# Altium footprint library con-pc.PCBLIB: 18 footprints (part 1 of 2)
Each footprint in its own frame and in the unit in brackets; x right, y up, seen from the top. Pads: shape width x height; smd on the part's side, far side on the other; paste and mask are expansions set on the pad; w line width, h text height; cw(c..) or ccw(c..) is an arc to the next point about the centre after c.
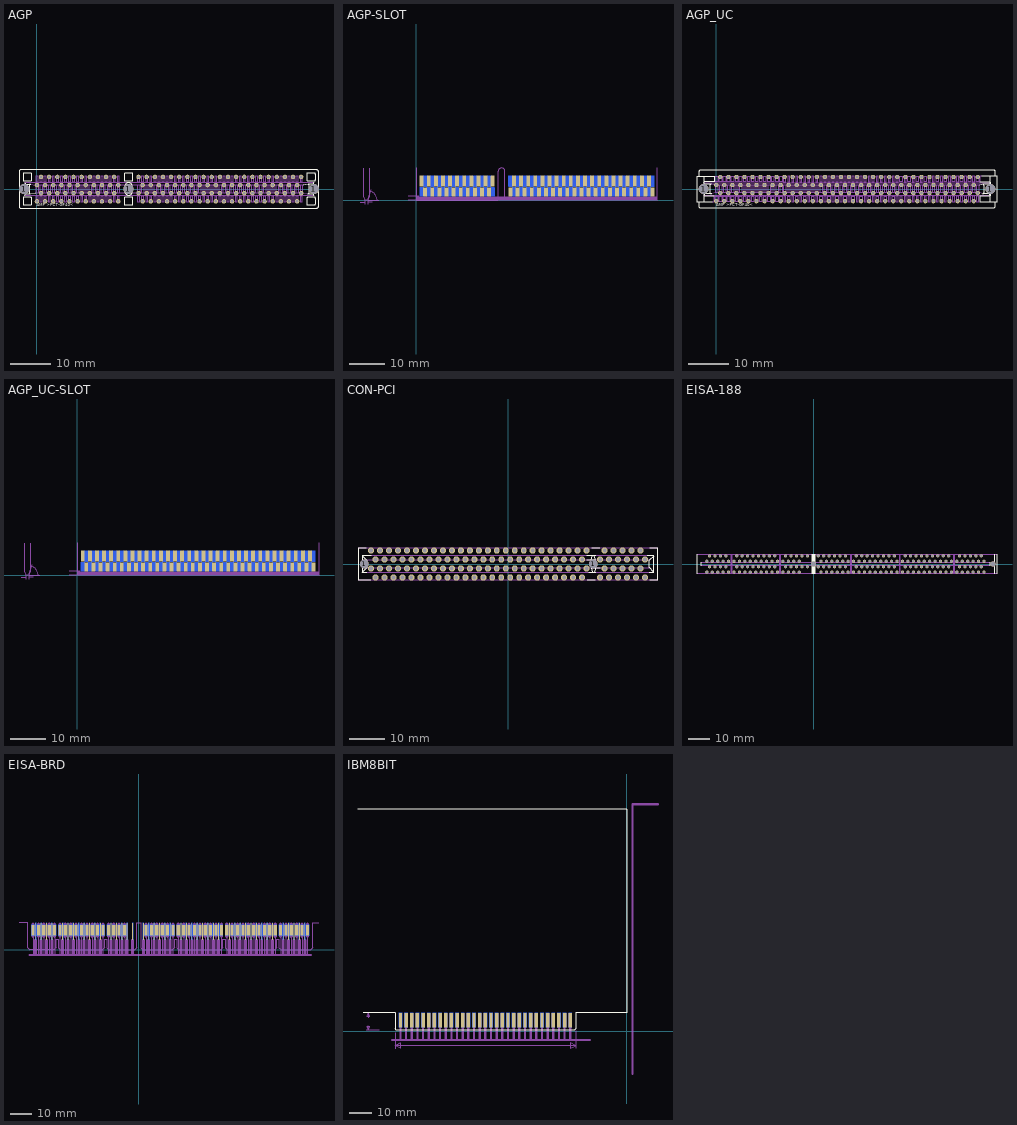
[diagram p0: the footprints below, top view; thin cyan lines are the x and y axes]

## AGP [mm]
pads (127):
  round 2.5 hole 2.5: 1(-3.14,0) 1(22.5,0) 1(68.14,0)
  round 1.1 hole 0.7: 1(0,-3) 2(0,1) 3(1,-1) 4(1,3) 5(2,-3) 6(2,1) 7(3,-1) 8(3,3) 9(4,-3) 10(4,1) 11(5,-1) 12(5,3) 13(6,-3) 14(6,1) 15(7,-1) 16(7,3) 17(8,-3) 18(8,1) 19(9,-1) 20(9,3) 21(10,-3) 22(10,1) 23(11,-1) 24(11,3) 25(12,-3) 26(12,1) 27(13,-1) 28(13,3) 29(14,-3) 30(14,1) 31(15,-1) 32(15,3) 33(16,-3) 34(16,1) 35(17,-1) 36(17,3) 37(18,-3) 38(18,1) 39(19,-1) 40(19,3) 41(20,-3) 42(20,1) 43(25,-1) 44(25,3) 45(26,-3) 46(26,1) 47(27,-1) 48(27,3) 49(28,-3) 50(28,1) 51(29,-1) 52(29,3) 53(30,-3) 54(30,1) 55(31,-1) 56(31,3) 57(32,-3) 58(32,1) 59(33,-1) 60(33,3) 61(34,-3) 62(34,1) 63(35,-1) 64(35,3) 65(36,-3) 66(36,1) 67(37,-1) 68(37,3) 69(38,-3) 70(38,1) 71(39,-1) 72(39,3) 73(40,-3) 74(40,1) 75(41,-1) 76(41,3) 77(42,-3) 78(42,1) 79(43,-1) 80(43,3) 81(44,-3) 82(44,1) 83(45,-1) 84(45,3) 85(46,-3) 86(46,1) 87(47,-1) 88(47,3) 89(48,-3) 90(48,1) 91(49,-1) 92(49,3) 93(50,-3) 94(50,1) 95(51,-1) 96(51,3) 97(52,-3) 98(52,1) 99(53,-1) 100(53,3) 101(54,-3) 102(54,1) 103(55,-1) 104(55,3) 105(56,-3) 106(56,1) 107(57,-1) 108(57,3) 109(58,-3) 110(58,1) 111(59,-1) 112(59,3) 113(60,-3) 114(60,1) 115(61,-1) 116(61,3) 117(62,-3) 118(62,1) 119(63,-1) 120(63,3) 121(64,-3) 122(64,1) 123(65,-1) 124(65,3)
Top Overlay:
  lines w0.102: -1.558,1.24 -1.653,1.24 ; -0.318,-0.922 -1.589,-1.176 -1.685,-1.176 ; 65.479,0.954 66.687,1.24 ; 66.592,-1.176 66.687,-1.176 ; 68.086,-1.462 67.863,-1.176 66.687,-1.176 ; 68.117,-1.494 68.117,1.558 67.895,1.24 66.687,1.24 ; -1.685,-1.176 -2.765,-1.176 -3.02,-1.494 -3.02,1.558 -2.797,1.24 -1.653,1.24 ; -1.685,-1.176 cw(c-1.685,-0.985) -1.875,-0.986 -1.875,1.017 cw(c-1.653,1.017) -1.653,1.24 ; 66.687,-1.176 ccw(c66.687,-0.89) 66.973,-0.89 66.973,0.954 ccw(c66.687,0.954) 66.687,1.24 ; -4.418,-4.228 -4.418,4.291 cw(c-3.973,4.291) -3.973,4.736 68.753,4.736 cw(c68.753,4.164) 69.325,4.164 69.325,-4.1 cw(c68.753,-4.1) 68.753,-4.673 -3.973,-4.673 cw(c-3.973,-4.228) -4.418,-4.228 ; -3.433,-3.624 -3.433,-2.257 cw(c-3.179,-2.257) -3.179,-2.003 -1.526,-2.003 cw(c-1.526,-2.257) -1.272,-2.257 -1.272,-3.624 cw(c-1.526,-3.624) -1.526,-3.878 -3.179,-3.878 cw(c-3.179,-3.624) -3.433,-3.624 ; -3.433,2.289 -3.433,3.687 cw(c-3.178,3.687) -3.179,3.942 -1.558,3.942 cw(c-1.558,3.655) -1.272,3.655 -1.272,2.289 cw(c-1.526,2.288) -1.526,2.034 -3.179,2.034 cw(c-3.179,2.289) -3.433,2.289 ; 21.456,-3.655 21.456,-2.225 cw(c21.678,-2.225) 21.678,-2.003 23.363,-2.003 cw(c23.363,-2.257) 23.617,-2.257 23.617,-3.592 cw(c23.331,-3.592) 23.331,-3.878 21.678,-3.878 cw(c21.678,-3.655) 21.456,-3.655 ; 21.456,2.289 21.456,3.655 cw(c21.742,3.655) 21.742,3.942 23.331,3.942 cw(c23.331,3.656) 23.617,3.656 23.617,2.32 cw(c23.331,2.32) 23.331,2.034 21.71,2.034 cw(c21.71,2.289) 21.456,2.289 ; 21.646,-0.636 21.646,0.699 cw(c22.504,0.699) 22.504,1.558 22.568,1.558 cw(c22.568,0.699) 23.426,0.699 23.426,-0.668 cw(c22.6,-0.668) 22.6,-1.494 22.504,-1.494 cw(c22.505,-0.636) 21.646,-0.636 ; 66.369,-3.624 66.369,-2.257 cw(c66.623,-2.257) 66.623,-2.003 68.276,-2.003 cw(c68.277,-2.257) 68.531,-2.257 68.531,-3.624 cw(c68.276,-3.624) 68.276,-3.878 66.623,-3.878 cw(c66.624,-3.623) 66.369,-3.624 ; 66.369,2.289 66.369,3.719 cw(c66.592,3.719) 66.592,3.942 68.245,3.942 cw(c68.245,3.655) 68.531,3.655 68.531,2.289 cw(c68.277,2.288) 68.276,2.034 66.623,2.034 cw(c66.623,2.289) 66.369,2.289
  text "AMP >PCT-GF40<" at -0.032,-4.514 h1.24
Mechanical 16:
  drawing of 630 lines, arcs and shapes, not listed

## AGP-SLOT [mm]
pads (124):
  rrect20% 1.09x3.09 smd: 1(1.5,5.46) 5(3.5,5.46) 9(5.5,5.46) 13(7.5,5.46) 17(9.5,5.46) 21(11.5,5.46) 25(13.5,5.46) 29(15.5,5.46) 33(17.5,5.46) 37(19.5,5.46) 41(21.5,5.46) 45(27.5,5.46) 49(29.5,5.46) 53(31.5,5.46) 57(33.5,5.46) 61(35.5,5.46) 65(37.5,5.46) 69(39.5,5.46) 73(41.5,5.46) 77(43.5,5.46) 81(45.5,5.46) 85(47.5,5.46) 89(49.5,5.46) 93(51.5,5.46) 97(53.5,5.46) 101(55.5,5.46) 105(57.5,5.46) 109(59.5,5.46) 113(61.5,5.46) 117(63.5,5.46) 121(65.5,5.46)
  rrect25% 1.09x2.56 smd far side: 2(1.5,2.42) 6(3.5,2.42) 10(5.5,2.42) 14(7.5,2.42) 18(9.5,2.42) 22(11.5,2.42) 26(13.5,2.42) 30(15.5,2.42) 34(17.5,2.42) 38(19.5,2.42) 42(21.5,2.42) 46(27.5,2.42) 50(29.5,2.42) 54(31.5,2.42) 58(33.5,2.42) 62(35.5,2.42) 66(37.5,2.42) 70(39.5,2.42) 74(41.5,2.42) 78(43.5,2.42) 82(45.5,2.42) 86(47.5,2.42) 90(49.5,2.42) 94(51.5,2.42) 98(53.5,2.42) 102(55.5,2.42) 106(57.5,2.42) 110(59.5,2.42) 114(61.5,2.42) 118(63.5,2.42) 122(65.5,2.42)
  rrect25% 1.09x2.56 smd: 3(2.5,2.42) 7(4.5,2.42) 11(6.5,2.42) 15(8.5,2.42) 19(10.5,2.42) 23(12.5,2.42) 27(14.5,2.42) 31(16.5,2.42) 35(18.5,2.42) 39(20.5,2.42) 43(26.5,2.42) 47(28.5,2.42) 51(30.5,2.42) 55(32.5,2.42) 59(34.5,2.42) 63(36.5,2.42) 67(38.5,2.42) 71(40.5,2.42) 75(42.5,2.42) 79(44.5,2.42) 83(46.5,2.42) 87(48.5,2.42) 91(50.5,2.42) 95(52.5,2.42) 99(54.5,2.42) 103(56.5,2.42) 107(58.5,2.42) 111(60.5,2.42) 115(62.5,2.42) 119(64.5,2.42) 123(66.5,2.42)
  rrect20% 1.09x3.09 smd far side: 4(2.5,5.46) 8(4.5,5.46) 12(6.5,5.46) 16(8.5,5.46) 20(10.5,5.46) 24(12.5,5.46) 28(14.5,5.46) 32(16.5,5.46) 36(18.5,5.46) 40(20.5,5.46) 44(26.5,5.46) 48(28.5,5.46) 52(30.5,5.46) 56(32.5,5.46) 60(34.5,5.46) 64(36.5,5.46) 68(38.5,5.46) 72(40.5,5.46) 76(42.5,5.46) 80(44.5,5.46) 84(46.5,5.46) 88(48.5,5.46) 92(50.5,5.46) 96(52.5,5.46) 100(54.5,5.46) 104(56.5,5.46) 108(58.5,5.46) 112(60.5,5.46) 116(62.5,5.46) 120(64.5,5.46) 124(66.5,5.46)
Top Solder:
  rectangle: 2.25,3.65 2.75,7.01
  rectangle: 1.25,1.15 1.75,4
  rectangle: 4.25,3.65 4.75,7.01
  rectangle: 3.25,1.15 3.75,4
  rectangle: 6.25,3.65 6.75,7.01
  rectangle: 5.25,1.15 5.75,4
  rectangle: 8.25,3.65 8.75,7.01
  rectangle: 7.25,1.15 7.75,4
  rectangle: 10.25,3.65 10.75,7.01
  rectangle: 9.25,1.15 9.75,4
  rectangle: 12.25,3.65 12.75,7.01
  rectangle: 11.25,1.15 11.75,4
  rectangle: 14.25,3.65 14.75,7.01
  rectangle: 13.25,1.15 13.75,4
  rectangle: 16.25,3.65 16.75,7.01
  rectangle: 15.25,1.15 15.75,4
  rectangle: 18.25,3.65 18.75,7.01
  rectangle: 17.25,1.15 17.75,4
  rectangle: 20.25,3.65 20.75,7.01
  rectangle: 19.25,1.15 19.75,4
  rectangle: 21.25,1.15 21.75,4
  rectangle: 26.25,3.65 26.75,7.01
  rectangle: 27.25,1.15 27.75,4
  rectangle: 28.25,3.65 28.75,7.01
  rectangle: 29.25,1.15 29.75,4
  rectangle: 30.25,3.65 30.75,7.01
  rectangle: 31.25,1.15 31.75,4
  rectangle: 32.25,3.65 32.75,7.01
  rectangle: 33.25,1.15 33.75,4
  rectangle: 34.25,3.65 34.75,7.01
  rectangle: 35.25,1.15 35.75,4
  rectangle: 36.25,3.65 36.75,7.01
  rectangle: 37.25,1.15 37.75,4
  rectangle: 38.25,3.65 38.75,7.01
  rectangle: 39.25,1.15 39.75,4
  rectangle: 40.25,3.65 40.75,7.01
  rectangle: 41.25,1.15 41.75,4
  rectangle: 42.25,3.65 42.75,7.01
  rectangle: 43.25,1.15 43.75,4
  rectangle: 44.25,3.65 44.75,7.01
  rectangle: 45.25,1.15 45.75,4
  rectangle: 46.25,3.65 46.75,7.01
  rectangle: 47.25,1.15 47.75,4
  rectangle: 48.25,3.65 48.75,7.01
  rectangle: 49.25,1.15 49.75,4
  rectangle: 50.25,3.65 50.75,7.01
  rectangle: 51.25,1.15 51.75,4
  rectangle: 52.25,3.65 52.75,7.01
  rectangle: 53.25,1.15 53.75,4
  rectangle: 54.25,3.65 54.75,7.01
  rectangle: 55.25,1.15 55.75,4
  rectangle: 56.25,3.65 56.75,7.01
  rectangle: 57.25,1.15 57.75,4
  rectangle: 58.25,3.65 58.75,7.01
  rectangle: 59.25,1.15 59.75,4
  rectangle: 60.25,3.65 60.75,7.01
  rectangle: 61.25,1.15 61.75,4
  rectangle: 62.25,3.65 62.75,7.01
  rectangle: 63.25,1.15 63.75,4
  rectangle: 64.25,3.65 64.75,7.01
  rectangle: 65.25,1.15 65.75,4
  rectangle: 66.25,3.65 66.75,7.01
Bottom Solder:
  rectangle: 1.25,3.65 1.75,7.01
  rectangle: 2.25,1.15 2.75,4
  rectangle: 3.25,3.65 3.75,7.01
  rectangle: 4.25,1.15 4.75,4
  rectangle: 5.25,3.65 5.75,7.01
  rectangle: 6.25,1.15 6.75,4
  rectangle: 7.25,3.65 7.75,7.01
  rectangle: 8.25,1.15 8.75,4
  rectangle: 9.25,3.65 9.75,7.01
  rectangle: 10.25,1.15 10.75,4
  rectangle: 11.25,3.65 11.75,7.01
  rectangle: 12.25,1.15 12.75,4
  rectangle: 13.25,3.65 13.75,7.01
  rectangle: 14.25,1.15 14.75,4
  rectangle: 15.25,3.65 15.75,7.01
  rectangle: 16.25,1.15 16.75,4
  rectangle: 17.25,3.65 17.75,7.01
  rectangle: 18.25,1.15 18.75,4
  rectangle: 19.25,3.65 19.75,7.01
  rectangle: 20.25,1.15 20.75,4
  rectangle: 21.25,3.65 21.75,7.01
  rectangle: 26.25,1.15 26.75,4
  rectangle: 27.25,3.65 27.75,7.01
  rectangle: 28.25,1.15 28.75,4
  rectangle: 29.25,3.65 29.75,7.01
  rectangle: 30.25,1.15 30.75,4
  rectangle: 31.25,3.65 31.75,7.01
  rectangle: 32.25,1.15 32.75,4
  rectangle: 33.25,3.65 33.75,7.01
  rectangle: 34.25,1.15 34.75,4
  rectangle: 35.25,3.65 35.75,7.01
  rectangle: 36.25,1.15 36.75,4
  rectangle: 37.25,3.65 37.75,7.01
  rectangle: 38.25,1.15 38.75,4
  rectangle: 39.25,3.65 39.75,7.01
  rectangle: 40.25,1.15 40.75,4
  rectangle: 41.25,3.65 41.75,7.01
  rectangle: 42.25,1.15 42.75,4
  rectangle: 43.25,3.65 43.75,7.01
  rectangle: 44.25,1.15 44.75,4
  rectangle: 45.25,3.65 45.75,7.01
  rectangle: 46.25,1.15 46.75,4
  rectangle: 47.25,3.65 47.75,7.01
  rectangle: 48.25,1.15 48.75,4
  rectangle: 49.25,3.65 49.75,7.01
  rectangle: 50.25,1.15 50.75,4
  rectangle: 51.25,3.65 51.75,7.01
  rectangle: 52.25,1.15 52.75,4
  rectangle: 53.25,3.65 53.75,7.01
  rectangle: 54.25,1.15 54.75,4
  rectangle: 55.25,3.65 55.75,7.01
  rectangle: 56.25,1.15 56.75,4
  rectangle: 57.25,3.65 57.75,7.01
  rectangle: 58.25,1.15 58.75,4
  rectangle: 59.25,3.65 59.75,7.01
  rectangle: 60.25,1.15 60.75,4
  rectangle: 61.25,3.65 61.75,7.01
  rectangle: 62.25,1.15 62.75,4
  rectangle: 63.25,3.65 63.75,7.01
  rectangle: 64.25,1.15 64.75,4
  rectangle: 65.25,3.65 65.75,7.01
  rectangle: 66.25,1.15 66.75,4
Mechanical 1:
  lines w0: 0,9.14 0,0 23.06,0 23.06,8.21 cw(c23.99,8.21) 23.99,9.14 24.01,9.14 cw(c24.01,8.21) 24.94,8.21 24.94,0 67.68,0 67.68,9.14
Mechanical 13:
  rectangle: 0,0 67.68,1.14
  region: 0,0 0.254,0 0.254,0.254 0,0.254
  region: 0,0 0.254,0 0.254,0.254 0,0.254
  region: 0,0 0.254,0 0.254,0.254 0,0.254
  region: 0,0 0.254,0 0.254,0.254 0,0.254
  lines w0: -14.87,9 -14.87,1.14 -14.46,0 ; -14.46,-1.05 -14.46,0 ; -13.71,-1.05 -13.71,0 ; -13.3,9 -13.3,1.14 -13.71,0 ; -12.78,2.53 cw(c-13.71,-0.005) -11.01,0 ; -12.612,3.017 -13.71,0 ; -10.5,0 -11.01,0 ; -2.32,0 0.69,0 ; -2.32,1.14 0.69,1.14 ; -14.46,0 -13.71,0 ; -13.71,0 -11.01,0
  lines w0.01: -15.73,-0.48 -14.49,-0.48 ; -13.68,-0.48 -12.44,-0.48
  text "Facette" at -6,0 h1.24
  text ".74 mm" at -14.3,-2.5 h1.24
  text "70°" at -11.38,1.45 h1.24
  text "Switch on : Layer 1 and 201 or Layer 16 and 216 ( in CAM-Processor )" at 0,-5 h1.97

## AGP_UC [mm]
pads (134):
  round 2.5 hole 2.5: 1(-3.14,0) 1(68.14,0)
  round 1.1 hole 0.7: 1(0,-3) 2(0,1) 3(1,-1) 4(1,3) 5(2,-3) 6(2,1) 7(3,-1) 8(3,3) 9(4,-3) 10(4,1) 11(5,-1) 12(5,3) 13(6,-3) 14(6,1) 15(7,-1) 16(7,3) 17(8,-3) 18(8,1) 19(9,-1) 20(9,3) 21(10,-3) 22(10,1) 23(11,-1) 24(11,3) 25(12,-3) 26(12,1) 27(13,-1) 28(13,3) 29(14,-3) 30(14,1) 31(15,-1) 32(15,3) 33(16,-3) 34(16,1) 35(17,-1) 36(17,3) 37(18,-3) 38(18,1) 39(19,-1) 40(19,3) 41(20,-3) 42(20,1) 43(21,-1) 44(21,3) 45(22,-3) 46(22,1) 47(23,-1) 48(23,3) 49(24,-3) 50(24,1) 51(25,-1) 52(25,3) 53(26,-3) 54(26,1) 55(27,-1) 56(27,3) 57(28,-3) 58(28,1) 59(29,-1) 60(29,3) 61(30,-3) 62(30,1) 63(31,-1) 64(31,3) 65(32,-3) 66(32,1) 67(33,-1) 68(33,3) 69(34,-3) 70(34,1) 71(35,-1) 72(35,3) 73(36,-3) 74(36,1) 75(37,-1) 76(37,3) 77(38,-3) 78(38,1) 79(39,-1) 80(39,3) 81(40,-3) 82(40,1) 83(41,-1) 84(41,3) 85(42,-3) 86(42,1) 87(43,-1) 88(43,3) 89(44,-3) 90(44,1) 91(45,-1) 92(45,3) 93(46,-3) 94(46,1) 95(47,-1) 96(47,3) 97(48,-3) 98(48,1) 99(49,-1) 100(49,3) 101(50,-3) 102(50,1) 103(51,-1) 104(51,3) 105(52,-3) 106(52,1) 107(53,-1) 108(53,3) 109(54,-3) 110(54,1) 111(55,-1) 112(55,3) 113(56,-3) 114(56,1) 115(57,-1) 116(57,3) 117(58,-3) 118(58,1) 119(59,-1) 120(59,3) 121(60,-3) 122(60,1) 123(61,-1) 124(61,3) 125(62,-3) 126(62,1) 127(63,-1) 128(63,3) 129(64,-3) 130(64,1) 131(65,-1) 132(65,3)
Top Overlay:
  lines w0.102: -4.342,-3.222 -4.342,-4.204 ccw(c-3.866,-4.204) -3.866,-4.68 68.869,-4.68 ccw(c68.869,-4.173) 69.376,-4.173 69.376,-3.222 ; -4.342,3.244 -4.342,4.226 cw(c-3.867,4.226) -3.866,4.701 68.932,4.701 cw(c68.932,4.258) 69.376,4.258 69.376,3.244 ; -3.138,-3.095 -3.138,-1.51 ; -3.138,3.117 -3.138,1.532 ; -3.106,-1.732 -0.539,-1.732 ; -3.074,1.754 -0.539,1.754 -0.539,3.18 -4.786,3.18 -4.786,-3.158 -1,-3.158 ; -1.204,1.215 -1.268,1.215 ; -1.173,-1.194 -1.268,-1.194 ; 65.446,0.93 66.207,1.215 66.238,1.215 ; 65.541,1.754 68.172,1.754 68.172,3.117 ; 66,3.18 69.788,3.18 69.788,-3.158 65.541,-3.158 65.541,-1.732 68.172,-1.732 68.172,-3.127 ; 68.14,-1.701 68.14,1.691 ; 68.14,-1.51 67.918,-1.194 66.207,-1.194 ccw(c66.207,-0.908) 66.492,-0.908 66.492,0.962 ccw(c66.239,0.962) 66.238,1.215 ; 68.14,1.532 67.918,1.215 66.238,1.215 ; -3.138,-1.51 -3.138,1.532 ; -3.138,-1.51 -2.916,-1.194 -1.268,-1.194 ; -3.138,1.532 -2.916,1.215 -1.268,1.215 ; -1.268,-1.194 cw(c-1.267,-1.003) -1.458,-1.003 -1.458,1.025 cw(c-1.268,1.025) -1.268,1.215
  text "AMP >PCT-GF40<" at -0.032,-4.514 h1.24
Mechanical 16:
  drawing of 671 lines, arcs and shapes, not listed

## AGP_UC-SLOT [mm]
pads (132):
  rrect20% 1.09x3.09 smd: 1(1.54,5.46) 5(3.54,5.46) 9(5.54,5.46) 13(7.54,5.46) 17(9.54,5.46) 21(11.54,5.46) 25(13.54,5.46) 29(15.54,5.46) 33(17.54,5.46) 37(19.54,5.46) 41(21.54,5.46) 45(23.54,5.46) 49(25.54,5.46) 53(27.54,5.46) 57(29.54,5.46) 61(31.54,5.46) 65(33.54,5.46) 69(35.54,5.46) 73(37.54,5.46) 77(39.54,5.46) 81(41.54,5.46) 85(43.54,5.46) 89(45.54,5.46) 93(47.54,5.46) 97(49.54,5.46) 101(51.54,5.46) 105(53.54,5.46) 109(55.54,5.46) 113(57.54,5.46) 117(59.54,5.46) 121(61.54,5.46) 125(63.54,5.46) 129(65.54,5.46)
  rrect25% 1.09x2.56 smd far side: 2(1.54,2.42) 6(3.54,2.42) 10(5.54,2.42) 14(7.54,2.42) 18(9.54,2.42) 22(11.54,2.42) 26(13.54,2.42) 30(15.54,2.42) 34(17.54,2.42) 38(19.54,2.42) 42(21.54,2.42) 46(23.54,2.42) 50(25.54,2.42) 54(27.54,2.42) 58(29.54,2.42) 62(31.54,2.42) 66(33.54,2.42) 70(35.54,2.42) 74(37.54,2.42) 78(39.54,2.42) 82(41.54,2.42) 86(43.54,2.42) 90(45.54,2.42) 94(47.54,2.42) 98(49.54,2.42) 102(51.54,2.42) 106(53.54,2.42) 110(55.54,2.42) 114(57.54,2.42) 118(59.54,2.42) 122(61.54,2.42) 126(63.54,2.42) 130(65.54,2.42)
  rrect25% 1.09x2.56 smd: 3(2.54,2.42) 7(4.54,2.42) 11(6.54,2.42) 15(8.54,2.42) 19(10.54,2.42) 23(12.54,2.42) 27(14.54,2.42) 31(16.54,2.42) 35(18.54,2.42) 39(20.54,2.42) 43(22.54,2.42) 47(24.54,2.42) 51(26.54,2.42) 55(28.54,2.42) 59(30.54,2.42) 63(32.54,2.42) 67(34.54,2.42) 71(36.54,2.42) 75(38.54,2.42) 79(40.54,2.42) 83(42.54,2.42) 87(44.54,2.42) 91(46.54,2.42) 95(48.54,2.42) 99(50.54,2.42) 103(52.54,2.42) 107(54.54,2.42) 111(56.54,2.42) 115(58.54,2.42) 119(60.54,2.42) 123(62.54,2.42) 127(64.54,2.42) 131(66.54,2.42)
  rrect20% 1.09x3.09 smd far side: 4(2.54,5.46) 8(4.54,5.46) 12(6.54,5.46) 16(8.54,5.46) 20(10.54,5.46) 24(12.54,5.46) 28(14.54,5.46) 32(16.54,5.46) 36(18.54,5.46) 40(20.54,5.46) 44(22.54,5.46) 48(24.54,5.46) 52(26.54,5.46) 56(28.54,5.46) 60(30.54,5.46) 64(32.54,5.46) 68(34.54,5.46) 72(36.54,5.46) 76(38.54,5.46) 80(40.54,5.46) 84(42.54,5.46) 88(44.54,5.46) 92(46.54,5.46) 96(48.54,5.46) 100(50.54,5.46) 104(52.54,5.46) 108(54.54,5.46) 112(56.54,5.46) 116(58.54,5.46) 120(60.54,5.46) 124(62.54,5.46) 128(64.54,5.46) 132(66.54,5.46)
Top Solder:
  rectangle: 2.29,3.65 2.79,7.01
  rectangle: 1.29,1.15 1.79,4
  rectangle: 4.29,3.65 4.79,7.01
  rectangle: 3.29,1.15 3.79,4
  rectangle: 6.29,3.65 6.79,7.01
  rectangle: 5.29,1.15 5.79,4
  rectangle: 8.29,3.65 8.79,7.01
  rectangle: 7.29,1.15 7.79,4
  rectangle: 10.29,3.65 10.79,7.01
  rectangle: 9.29,1.15 9.79,4
  rectangle: 12.29,3.65 12.79,7.01
  rectangle: 11.29,1.15 11.79,4
  rectangle: 14.29,3.65 14.79,7.01
  rectangle: 13.29,1.15 13.79,4
  rectangle: 16.29,3.65 16.79,7.01
  rectangle: 15.29,1.15 15.79,4
  rectangle: 18.29,3.65 18.79,7.01
  rectangle: 17.29,1.15 17.79,4
  rectangle: 20.29,3.65 20.79,7.01
  rectangle: 19.29,1.15 19.79,4
  rectangle: 21.29,1.15 21.79,4
  rectangle: 22.29,3.65 22.79,7.01
  rectangle: 24.29,3.65 24.79,7.01
  rectangle: 23.29,1.15 23.79,4
  rectangle: 26.29,3.65 26.79,7.01
  rectangle: 25.29,1.15 25.79,4
  rectangle: 28.29,3.65 28.79,7.01
  rectangle: 27.29,1.15 27.79,4
  rectangle: 30.29,3.65 30.79,7.01
  rectangle: 29.29,1.15 29.79,4
  rectangle: 32.29,3.65 32.79,7.01
  rectangle: 31.29,1.15 31.79,4
  rectangle: 34.29,3.65 34.79,7.01
  rectangle: 33.29,1.15 33.79,4
  rectangle: 36.29,3.65 36.79,7.01
  rectangle: 35.29,1.15 35.79,4
  rectangle: 38.29,3.65 38.79,7.01
  rectangle: 37.29,1.15 37.79,4
  rectangle: 40.29,3.65 40.79,7.01
  rectangle: 39.29,1.15 39.79,4
  rectangle: 41.29,1.15 41.79,4
  rectangle: 42.29,3.65 42.79,7.01
  rectangle: 44.29,3.65 44.79,7.01
  rectangle: 43.29,1.15 43.79,4
  rectangle: 46.29,3.65 46.79,7.01
  rectangle: 45.29,1.15 45.79,4
  rectangle: 48.29,3.65 48.79,7.01
  rectangle: 47.29,1.15 47.79,4
  rectangle: 50.29,3.65 50.79,7.01
  rectangle: 49.29,1.15 49.79,4
  rectangle: 52.29,3.65 52.79,7.01
  rectangle: 51.29,1.15 51.79,4
  rectangle: 54.29,3.65 54.79,7.01
  rectangle: 53.29,1.15 53.79,4
  rectangle: 56.29,3.65 56.79,7.01
  rectangle: 55.29,1.15 55.79,4
  rectangle: 58.29,3.65 58.79,7.01
  rectangle: 57.29,1.15 57.79,4
  rectangle: 60.29,3.65 60.79,7.01
  rectangle: 59.29,1.15 59.79,4
  rectangle: 61.29,1.15 61.79,4
  rectangle: 62.29,3.65 62.79,7.01
  rectangle: 64.29,3.65 64.79,7.01
  rectangle: 63.29,1.15 63.79,4
  rectangle: 66.29,3.65 66.79,7.01
  rectangle: 65.29,1.15 65.79,4
Bottom Solder:
  rectangle: 1.29,3.65 1.79,7.01
  rectangle: 2.29,1.15 2.79,4
  rectangle: 3.29,3.65 3.79,7.01
  rectangle: 4.29,1.15 4.79,4
  rectangle: 5.29,3.65 5.79,7.01
  rectangle: 6.29,1.15 6.79,4
  rectangle: 7.29,3.65 7.79,7.01
  rectangle: 8.29,1.15 8.79,4
  rectangle: 9.29,3.65 9.79,7.01
  rectangle: 10.29,1.15 10.79,4
  rectangle: 11.29,3.65 11.79,7.01
  rectangle: 12.29,1.15 12.79,4
  rectangle: 13.29,3.65 13.79,7.01
  rectangle: 14.29,1.15 14.79,4
  rectangle: 15.29,3.65 15.79,7.01
  rectangle: 16.29,1.15 16.79,4
  rectangle: 17.29,3.65 17.79,7.01
  rectangle: 18.29,1.15 18.79,4
  rectangle: 19.29,3.65 19.79,7.01
  rectangle: 20.29,1.15 20.79,4
  rectangle: 21.29,3.65 21.79,7.01
  rectangle: 22.29,1.15 22.79,4
  rectangle: 23.29,3.65 23.79,7.01
  rectangle: 24.29,1.15 24.79,4
  rectangle: 25.29,3.65 25.79,7.01
  rectangle: 26.29,1.15 26.79,4
  rectangle: 27.29,3.65 27.79,7.01
  rectangle: 28.29,1.15 28.79,4
  rectangle: 29.29,3.65 29.79,7.01
  rectangle: 30.29,1.15 30.79,4
  rectangle: 31.29,3.65 31.79,7.01
  rectangle: 32.29,1.15 32.79,4
  rectangle: 33.29,3.65 33.79,7.01
  rectangle: 34.29,1.15 34.79,4
  rectangle: 35.29,3.65 35.79,7.01
  rectangle: 36.29,1.15 36.79,4
  rectangle: 37.29,3.65 37.79,7.01
  rectangle: 38.29,1.15 38.79,4
  rectangle: 39.29,3.65 39.79,7.01
  rectangle: 40.29,1.15 40.79,4
  rectangle: 41.29,3.65 41.79,7.01
  rectangle: 42.29,1.15 42.79,4
  rectangle: 43.29,3.65 43.79,7.01
  rectangle: 44.29,1.15 44.79,4
  rectangle: 45.29,3.65 45.79,7.01
  rectangle: 46.29,1.15 46.79,4
  rectangle: 47.29,3.65 47.79,7.01
  rectangle: 48.29,1.15 48.79,4
  rectangle: 49.29,3.65 49.79,7.01
  rectangle: 50.29,1.15 50.79,4
  rectangle: 51.29,3.65 51.79,7.01
  rectangle: 52.29,1.15 52.79,4
  rectangle: 53.29,3.65 53.79,7.01
  rectangle: 54.29,1.15 54.79,4
  rectangle: 55.29,3.65 55.79,7.01
  rectangle: 56.29,1.15 56.79,4
  rectangle: 57.29,3.65 57.79,7.01
  rectangle: 58.29,1.15 58.79,4
  rectangle: 59.29,3.65 59.79,7.01
  rectangle: 60.29,1.15 60.79,4
  rectangle: 61.29,3.65 61.79,7.01
  rectangle: 62.29,1.15 62.79,4
  rectangle: 63.29,3.65 63.79,7.01
  rectangle: 64.29,1.15 64.79,4
  rectangle: 65.29,3.65 65.79,7.01
  rectangle: 66.29,1.15 66.79,4
Mechanical 1:
  lines w0: 0,9.14 0,0 68.07,0 68.07,9.14
Mechanical 13:
  rectangle: 0,0 68.07,1.14
  region: 0,0 0.254,0 0.254,0.254 0,0.254
  region: 0,0 0.254,0 0.254,0.254 0,0.254
  region: 0,0 0.254,0 0.254,0.254 0,0.254
  region: 0,0 0.254,0 0.254,0.254 0,0.254
  lines w0: -14.87,9 -14.87,1.14 -14.46,0 ; -14.46,-1.05 -14.46,0 ; -13.71,-1.05 -13.71,0 ; -13.3,9 -13.3,1.14 -13.71,0 ; -12.78,2.53 cw(c-13.71,-0.005) -11.01,0 ; -12.612,3.017 -13.71,0 ; -10.5,0 -11.01,0 ; -2.32,0 0.69,0 ; -2.32,1.14 0.69,1.14 ; -14.46,0 -13.71,0 ; -13.71,0 -11.01,0
  lines w0.01: -15.73,-0.48 -14.49,-0.48 ; -13.68,-0.48 -12.44,-0.48
  text ".74 mm" at -14.3,-2.5 h1.24
  text "70°" at -11.38,1.45 h1.24
  text "Switch on : Layer 1 and 201 or Layer 16 and 216 ( in CAM-Processor )" at 0,-5 h1.97
  text "Facette" at -6,0 h1.24

## CON-PCI [mil]
pads (122):
  round 96 hole 96: 1(-1600,0) 1(950,0)
  oct 66x66 hole 40: A1(-1525,150) A2(-1475,50) A3(-1425,150) A4(-1375,50) A5(-1325,150) A6(-1275,50) A7(-1225,150) A8(-1175,50) A9(-1125,150) A10(-1075,50) A11(-1025,150) A12(-975,50) A13(-925,150) A14(-875,50) A15(-825,150) A16(-775,50) A17(-725,150) A18(-675,50) A19(-625,150) A20(-575,50) A21(-525,150) A22(-475,50) A23(-425,150) A24(-375,50) A25(-325,150) A26(-275,50) A27(-225,150) A28(-175,50) A29(-125,150) A30(-75,50) A31(-25,150) A32(25,50) A33(75,150) A34(125,50) A35(175,150) A36(225,50) A37(275,150) A38(325,50) A39(375,150) A40(425,50) A41(475,150) A42(525,50) A43(575,150) A44(625,50) A45(675,150) A46(725,50) A47(775,150) A48(825,50) A49(875,150) A52(1025,50) A53(1075,150) A54(1125,50) A55(1175,150) A56(1225,50) A57(1275,150) A58(1325,50) A59(1375,150) A60(1425,50) A61(1475,150) A62(1525,50) B1(-1525,-50) B2(-1475,-150) B3(-1425,-50) B4(-1375,-150) B5(-1325,-50) B6(-1275,-150) B7(-1225,-50) B8(-1175,-150) B9(-1125,-50) B10(-1075,-150) B11(-1025,-50) B12(-975,-150) B13(-925,-50) B14(-875,-150) B15(-825,-50) B16(-775,-150) B17(-725,-50) B18(-675,-150) B19(-625,-50) B20(-575,-150) B21(-525,-50) B22(-475,-150) B23(-425,-50) B24(-375,-150) B25(-325,-50) B26(-275,-150) B27(-225,-50) B28(-175,-150) B29(-125,-50) B30(-75,-150) B31(-25,-50) B32(25,-150) B33(75,-50) B34(125,-150) B35(175,-50) B36(225,-150) B37(275,-50) B38(325,-150) B39(375,-50) B40(425,-150) B41(475,-50) B42(525,-150) B43(575,-50) B44(625,-150) B45(675,-50) B46(725,-150) B47(775,-50) B48(825,-150) B49(875,-50) B52(1025,-150) B53(1075,-50) B54(1125,-150) B55(1175,-50) B56(1225,-150) B57(1275,-50) B58(1325,-150) B59(1375,-50) B60(1425,-150) B61(1475,-50) B62(1525,-150)
Top Overlay:
  lines w10: -1625,85.63 -1625,-89.37 ; -1579.92,175.2 -1670.08,175.2 -1670.08,-175.2 -1529.92,-175.2 ; -1575,-89.37 -1625,-89.37 ; -1525,89.37 -1625,89.37 -1575,39.37 -1575,-39.37 -1625,-89.37 ; 875,39.37 975,39.37 ; 875,89.37 975,89.37 ; 879.92,-175.2 970.08,-175.2 ; 900,-89.37 975,-89.37 ; 925,-39.37 1025,-39.37 ; 929.92,175.2 1020.08,175.2 ; 940,-90 925,-40 925,40 940,90 ; 960,-90 975,-40 975,40 960,90 ; 1550,89.37 1625,89.37 ; 1575,-89.37 1625,-89.37 ; 1579.92,-175.2 1670.08,-175.2 1670.08,175.2 1579.92,175.2 ; 1625,-89.37 1625,85.63 1575,39.37 1575,-35.63 1625,-89.37
Mechanical 13:
  text "AMP 646255-x PCI-SLOT" at -1625,200 h77.5
Mechanical 16:
  lines w10: -1670.08,-175.2 1670.08,-175.2 ; -1670.08,175.2 1670.08,175.2 ; -1625,-89.37 1625,-89.37 ; -1625,89.37 1625,89.37 1625,85.63 ; -1575,-39.37 1575,-39.37 1575,-35.63 ; -1575,39.37 1575,39.37

## EISA-188 [mil]
pads (190):
  round 96.06 hole 96.06: 1(0,0) 1(3301.57,0)
  round 59.06 hole 43.31: A1(3135.83,-150) A2(3035.83,-150) A3(2935.83,-150) A4(2835.83,-150) A5(2735.83,-150) A6(2635.83,-150) A7(2535.83,-150) A8(2435.83,-150) A9(2335.83,-150) A10(2235.83,-150) A11(2135.83,-150) A12(2035.83,-150) A13(1935.83,-150) A14(1835.83,-150) A15(1735.83,-150) A16(1635.83,-150) A17(1535.83,-150) A18(1435.83,-150) A19(1335.83,-150) A20(1235.83,-150) A21(1135.83,-150) A22(1035.83,-150) A23(935.83,-150) A24(835.83,-150) A25(735.83,-150) A26(635.83,-150) A27(535.83,-150) A28(435.83,-150) A29(335.83,-150) A30(235.83,-150) A31(135.83,-150) B1(3135.83,50) B2(3035.83,50) B3(2935.83,50) B4(2835.83,50) B5(2735.83,50) B6(2635.83,50) B7(2535.83,50) B8(2435.83,50) B9(2335.83,50) B10(2235.83,50) B11(2135.83,50) B12(2035.83,50) B13(1935.83,50) B14(1835.83,50) B15(1735.83,50) B16(1635.83,50) B17(1535.83,50) B18(1435.83,50) B19(1335.83,50) B20(1235.83,50) B21(1135.83,50) B22(1035.83,50) B23(935.83,50) B24(835.83,50) B25(735.83,50) B26(635.83,50) B27(535.83,50) B28(435.83,50) B29(335.83,50) B30(235.83,50) B31(135.83,50) C1(-264.17,-150) C2(-364.17,-150) C3(-464.17,-150) C4(-564.17,-150) C5(-664.17,-150) C6(-764.17,-150) C7(-864.17,-150) C8(-964.17,-150) C9(-1064.17,-150) C10(-1164.17,-150) C11(-1264.17,-150) C12(-1364.17,-150) C13(-1464.17,-150) C14(-1564.17,-150) C15(-1664.17,-150) C16(-1764.17,-150) C17(-1864.17,-150) C18(-1964.17,-150) D1(-264.17,50) D2(-364.17,50) D3(-464.17,50) D4(-564.17,50) D5(-664.17,50) D6(-764.17,50) D7(-864.17,50) D8(-964.17,50) D9(-1064.17,50) D10(-1164.17,50) D11(-1264.17,50) D12(-1364.17,50) D13(-1464.17,50) D14(-1564.17,50) D15(-1664.17,50) D16(-1764.17,50) D17(-1864.17,50) D18(-1964.17,50) E1(3085.83,-50) E2(2985.83,-50) E3(2885.83,-50) E4(2785.83,-50) E5(2685.83,-50) E7(2485.83,-50) E8(2385.83,-50) E9(2285.83,-50) E10(2185.83,-50) E11(2085.83,-50) E12(1985.83,-50) E13(1885.83,-50) E14(1785.83,-50) E15(1685.83,-50) E17(1485.83,-50) E18(1385.83,-50) E19(1285.83,-50) E20(1185.83,-50) E21(1085.83,-50) E22(985.83,-50) E23(885.83,-50) E24(785.83,-50) E26(585.83,-50) E27(485.83,-50) E28(385.83,-50) E29(285.83,-50) E30(185.83,-50) E31(85.83,-50) F1(3085.83,150) F2(2985.83,150) F3(2885.83,150) F4(2785.83,150) F5(2685.83,150) F7(2485.83,150) F8(2385.83,150) F9(2285.83,150) F10(2185.83,150) F11(2085.83,150) F12(1985.83,150) F13(1885.83,150) F14(1785.83,150) F15(1685.83,150) F17(1485.83,150) F18(1385.83,150) F19(1285.83,150) F20(1185.83,150) F21(1085.83,150) F22(985.83,150) F23(885.83,150) F24(785.83,150) F26(585.83,150) F27(485.83,150) F28(385.83,150) F29(285.83,150) F30(185.83,150) F31(85.83,150) G1(-114.17,-50) G2(-214.17,-50) G3(-314.17,-50) G4(-414.17,-50) G5(-514.17,-50) G7(-714.17,-50) G8(-814.17,-50) G9(-914.17,-50) G10(-1014.17,-50) G11(-1114.17,-50) G12(-1214.17,-50) G13(-1314.17,-50) G14(-1414.17,-50) G16(-1614.17,-50) G17(-1714.17,-50) G18(-1814.17,-50) G19(-1914.17,-50) H1(-114.17,150) H2(-214.17,150) H3(-314.17,150) H4(-414.17,150) H5(-514.17,150) H7(-714.17,150) H8(-814.17,150) H9(-914.17,150) H10(-1014.17,150) H11(-1114.17,150) H12(-1214.17,150) H13(-1314.17,150) H14(-1414.17,150) H16(-1614.17,150) H17(-1714.17,150) H18(-1814.17,150) H19(-1914.17,150)
Top Overlay:
  rectangle: -35,-185 35,185
  lines w10: -2145,-182 -2145,182 ; -2070,-36.5 -2070,36.5 ; 3242,-36.5 3242,36.5 ; 3321,-180.5 3321,178.5 ; 3375,-182 3375,182
Mechanical 16:
  lines w10: -2145,-182 3375,-182 ; -2145,182 3375,182 ; -2070,-36.5 3242,-36.5 ; -2070,36.5 3242,36.5
  lines w36: -1514.17,-168.5 -1514.17,169.02 ; -614.69,-168.5 -614.69,168.19 ; 685.83,-168.5 685.83,168.5 ; 1585.83,-168.5 1585.83,167.99 ; 2585.83,-168.5 2585.83,169.02
  text "KYCON www.kycon.com KEISA-188-G" at 0,200 h77.5

## EISA-BRD [mm]
pads (188):
  rect 1.5x5 smd: A1(79.65,9.204) A2(77.11,9.204) A3(74.57,9.204) A4(72.03,9.204) A5(69.49,9.204) A6(66.95,9.204) A7(64.41,9.204) A8(61.87,9.204) A9(59.33,9.204) A10(56.79,9.204) A11(54.25,9.204) A12(51.71,9.204) A13(49.17,9.204) A14(46.63,9.204) A15(44.09,9.204) A16(41.55,9.204) A17(39.01,9.204) A18(36.47,9.204) A19(33.93,9.204) A20(31.39,9.204) A21(28.85,9.204) A22(26.31,9.204) A23(23.77,9.204) A24(21.23,9.204) A25(18.69,9.204) A26(16.15,9.204) A27(13.61,9.204) A28(11.07,9.204) A29(8.53,9.204) A30(5.99,9.204) A31(3.45,9.204) C1(-6.71,9.204) C2(-9.25,9.204) C3(-11.79,9.204) C4(-14.33,9.204) C5(-16.87,9.204) C6(-19.41,9.204) C7(-21.95,9.204) C8(-24.49,9.204) C9(-27.03,9.204) C10(-29.57,9.204) C11(-32.11,9.204) C12(-34.65,9.204) C13(-37.19,9.204) C14(-39.73,9.204) C15(-42.27,9.204) C16(-44.81,9.204) C17(-47.35,9.204) C18(-49.89,9.204)
  rect 1.5x5 smd far side: B1(79.65,9.204) B2(77.11,9.204) B3(74.57,9.204) B4(72.03,9.204) B5(69.49,9.204) B6(66.95,9.204) B7(64.41,9.204) B8(61.87,9.204) B9(59.33,9.204) B10(56.79,9.204) B11(54.25,9.204) B12(51.71,9.204) B13(49.17,9.204) B14(46.63,9.204) B15(44.09,9.204) B16(41.55,9.204) B17(39.01,9.204) B18(36.47,9.204) B19(33.93,9.204) B20(31.39,9.204) B21(28.85,9.204) B22(26.31,9.204) B23(23.77,9.204) B24(21.23,9.204) B25(18.69,9.204) B26(16.15,9.204) B27(13.61,9.204) B28(11.07,9.204) B29(8.53,9.204) B30(5.99,9.204) B31(3.45,9.204) D1(-6.71,9.204) D2(-9.25,9.204) D3(-11.79,9.204) D4(-14.33,9.204) D5(-16.87,9.204) D6(-19.41,9.204) D7(-21.95,9.204) D8(-24.49,9.204) D9(-27.03,9.204) D10(-29.57,9.204) D11(-32.11,9.204) D12(-34.65,9.204) D13(-37.19,9.204) D14(-39.73,9.204) D15(-42.27,9.204) D16(-44.81,9.204) D17(-47.35,9.204) D18(-49.89,9.204)
  rect 0.4x8 smd: E1(78.38,8.696) E2(75.84,8.696) E3(73.3,8.696) E4(70.76,8.696) E5(68.22,8.696) E7(63.14,8.696) E8(60.6,8.696) E9(58.06,8.696) E10(55.52,8.696) E11(52.98,8.696) E12(50.44,8.696) E13(47.9,8.696) E14(45.36,8.696) E15(42.82,8.696) E17(37.74,8.696) E18(35.2,8.696) E19(32.66,8.696) E20(30.12,8.696) E21(27.58,8.696) E22(25.04,8.696) E23(22.5,8.696) E24(19.96,8.696) E26(14.88,8.696) E27(12.34,8.696) E28(9.8,8.696) E29(7.26,8.696) E30(4.72,8.696) E31(2.18,8.696) G1(-2.9,8.696) G2(-5.44,8.696) G3(-7.98,8.696) G4(-10.52,8.696) G5(-13.06,8.696) G7(-18.14,8.696) G8(-20.68,8.696) G9(-23.22,8.696) G10(-25.76,8.696) G11(-28.3,8.696) G12(-30.84,8.696) G13(-33.38,8.696) G14(-35.92,8.696) G16(-41,8.696) G17(-43.54,8.696) G18(-46.08,8.696) G19(-48.62,8.696)
  rect 0.4x8 smd far side: F1(78.38,8.696) F2(75.84,8.696) F3(73.3,8.696) F4(70.76,8.696) F5(68.22,8.696) F7(63.14,8.696) F8(60.6,8.696) F9(58.06,8.696) F10(55.52,8.696) F11(52.98,8.696) F12(50.44,8.696) F13(47.9,8.696) F14(45.36,8.696) F15(42.82,8.696) F17(37.74,8.696) F18(35.2,8.696) F19(32.66,8.696) F20(30.12,8.696) F21(27.58,8.696) F22(25.04,8.696) F23(22.5,8.696) F24(19.96,8.696) F26(14.88,8.696) F27(12.34,8.696) F28(9.8,8.696) F29(7.26,8.696) F30(4.72,8.696) F31(2.18,8.696) H1(-2.9,8.696) H2(-5.44,8.696) H3(-7.98,8.696) H4(-10.52,8.696) H5(-13.06,8.696) H7(-18.14,8.696) H8(-20.68,8.696) H9(-23.22,8.696) H10(-25.76,8.696) H11(-28.3,8.696) H12(-30.84,8.696) H13(-33.38,8.696) H14(-35.92,8.696) H16(-41,8.696) H17(-43.54,8.696) H18(-46.08,8.696) H19(-48.62,8.696)
Top Solder:
  rectangle: -52.705,0 83.185,12.7
Bottom Solder:
  rectangle: -52.705,0 83.185,12.7
Mechanical 1:
  lines w0: -56.515,12.7 -52.451,12.7 -52.451,1.016 -51.435,0 -40.005,0 -38.989,1.016 -38.989,5.08 -37.973,5.08 -37.973,1.016 -36.957,0 -17.145,0 -16.129,1.016 -16.129,5.08 -15.113,5.08 -15.113,1.016 -14.097,0 -1.905,0 -0.889,1.016 -0.889,12.7 0.889,12.7 0.889,1.016 1.905,0 15.875,0 16.891,1.016 16.891,5.08 17.907,5.08 17.907,1.016 18.923,0 38.735,0 39.751,1.016 39.751,5.08 40.767,5.08 40.767,1.016 41.783,0 64.135,0 65.151,1.016 65.151,5.08 66.167,5.08 66.167,1.016 67.183,0 81.153,0 82.169,1.016 82.169,12.7 85.09,12.7
Mechanical 16:
  text "EISA-188" at 0,-6.35 h1.97
Mechanical 23:
  lines w0.4: -49.89,-2.54 -49.89,6.35 ; -47.35,-2.54 -47.35,6.35 ; -44.81,-2.54 -44.81,6.35 ; -42.27,-2.54 -42.27,6.35 ; -39.73,-2.54 -39.73,6.35 ; -37.19,-2.54 -37.19,6.35 ; -34.65,-2.54 -34.65,6.35 ; -32.11,-2.54 -32.11,6.35 ; -29.57,-2.54 -29.57,6.35 ; -27.03,-2.54 -27.03,6.35 ; -24.49,-2.54 -24.49,6.35 ; -21.95,-2.54 -21.95,6.35 ; -19.41,-2.54 -19.41,6.35 ; -16.87,-2.54 -16.87,6.35 ; -14.33,-2.54 -14.33,6.35 ; -11.79,-2.54 -11.79,6.35 ; -9.25,-2.54 -9.25,6.35 ; -6.71,-2.54 -6.71,6.35 ; 3.45,-2.54 3.45,6.35 ; 5.99,-2.54 5.99,6.35 ; 8.53,-2.54 8.53,6.35 ; 11.07,-2.54 11.07,6.35 ; 13.61,-2.54 13.61,6.35 ; 16.15,-2.54 16.15,6.35 ; 18.69,-2.54 18.69,6.35 ; 21.23,-2.54 21.23,6.35 ; 23.77,-2.54 23.77,6.35 ; 26.31,-2.54 26.31,6.35 ; 28.85,-2.54 28.85,6.35 ; 31.39,-2.54 31.39,6.35 ; 33.93,-2.54 33.93,6.35 ; 36.47,-2.54 36.47,6.35 ; 39.01,-2.54 39.01,6.35 ; 41.55,-2.54 41.55,6.35 ; 44.09,-2.54 44.09,6.35 ; 46.63,-2.54 46.63,6.35 ; 49.17,-2.54 49.17,6.35 ; 51.71,-2.54 51.71,6.35 ; 54.25,-2.54 54.25,6.35 ; 56.79,-2.54 56.79,6.35 ; 59.33,-2.54 59.33,6.35 ; 61.87,-2.54 61.87,6.35 ; 64.41,-2.54 64.41,6.35 ; 66.95,-2.54 66.95,6.35 ; 69.49,-2.54 69.49,6.35 ; 72.03,-2.54 72.03,6.35 ; 74.57,-2.54 74.57,6.35 ; 77.11,-2.54 77.11,6.35 ; 79.65,-2.54 79.65,6.35
  lines w1.016: -51.435,-2.54 81.28,-2.54
  lines w1.4: -48.62,-1.905 -48.62,4.699 ; -46.08,-1.905 -46.08,4.699 ; -43.54,-1.905 -43.54,4.699 ; -41,-1.905 -41,4.699 ; -35.92,-1.905 -35.92,4.699 ; -33.38,-1.905 -33.38,4.699 ; -30.84,-1.905 -30.84,4.699 ; -28.3,-1.905 -28.3,4.699 ; -25.76,-1.905 -25.76,4.699 ; -23.22,-1.905 -23.22,4.699 ; -20.68,-1.905 -20.68,4.699 ; -18.14,-1.905 -18.14,4.699 ; -13.06,-1.905 -13.06,4.699 ; -10.52,-1.905 -10.52,4.699 ; -7.98,-1.905 -7.98,4.699 ; -5.44,-1.905 -5.44,4.699 ; -2.9,-1.905 -2.9,4.699 ; 2.18,-1.905 2.18,4.699 ; 4.72,-1.905 4.72,4.699 ; 7.26,-1.905 7.26,4.699 ; 9.8,-1.905 9.8,4.699 ; 12.34,-1.905 12.34,4.699 ; 14.88,-1.905 14.88,4.699 ; 19.96,-1.905 19.96,4.699 ; 22.5,-1.905 22.5,4.699 ; 25.04,-1.905 25.04,4.699 ; 27.58,-1.905 27.58,4.699 ; 30.12,-1.905 30.12,4.699 ; 32.66,-1.905 32.66,4.699 ; 35.2,-1.905 35.2,4.699 ; 37.74,-1.905 37.74,4.699 ; 42.82,-1.905 42.82,4.699 ; 45.36,-1.905 45.36,4.699 ; 47.9,-1.905 47.9,4.699 ; 50.44,-1.905 50.44,4.699 ; 52.98,-1.905 52.98,4.699 ; 55.52,-1.905 55.52,4.699 ; 58.06,-1.905 58.06,4.699 ; 60.6,-1.905 60.6,4.699 ; 63.14,-1.905 63.14,4.699 ; 68.22,-1.905 68.22,4.699 ; 70.76,-1.905 70.76,4.699 ; 73.3,-1.905 73.3,4.699 ; 75.84,-1.905 75.84,4.699 ; 78.38,-1.905 78.38,4.699
  lines w1.5: -49.89,6.35 -49.89,12.002 ; -47.35,6.35 -47.35,12.002 ; -44.81,6.35 -44.81,12.002 ; -42.27,6.35 -42.27,12.002 ; -39.73,6.35 -39.73,12.002 ; -37.19,6.35 -37.19,12.002 ; -34.65,6.35 -34.65,12.002 ; -32.11,6.35 -32.11,12.002 ; -29.57,6.35 -29.57,12.002 ; -27.03,6.35 -27.03,12.002 ; -24.49,6.35 -24.49,12.002 ; -21.95,6.35 -21.95,12.002 ; -19.41,6.35 -19.41,12.002 ; -16.87,6.35 -16.87,12.002 ; -14.33,6.35 -14.33,12.002 ; -11.79,6.35 -11.79,12.002 ; -9.25,6.35 -9.25,12.002 ; -6.71,6.35 -6.71,12.002 ; 3.45,6.35 3.45,12.002 ; 5.99,6.35 5.99,12.002 ; 8.53,6.35 8.53,12.002 ; 11.07,6.35 11.07,12.002 ; 13.61,6.35 13.61,12.002 ; 16.15,6.35 16.15,12.002 ; 18.69,6.35 18.69,12.002 ; 21.23,6.35 21.23,12.002 ; 23.77,6.35 23.77,12.002 ; 26.31,6.35 26.31,12.002 ; 28.85,6.35 28.85,12.002 ; 31.39,6.35 31.39,12.002 ; 33.93,6.35 33.93,12.002 ; 36.47,6.35 36.47,12.002 ; 39.01,6.35 39.01,12.002 ; 41.55,6.35 41.55,12.002 ; 44.09,6.35 44.09,12.002 ; 46.63,6.35 46.63,12.002 ; 49.17,6.35 49.17,12.002 ; 51.71,6.35 51.71,12.002 ; 54.25,6.35 54.25,12.002 ; 56.79,6.35 56.79,12.002 ; 59.33,6.35 59.33,12.002 ; 61.87,6.35 61.87,12.002 ; 64.41,6.35 64.41,12.002 ; 66.95,6.35 66.95,12.002 ; 69.49,6.35 69.49,12.002 ; 72.03,6.35 72.03,12.002 ; 74.57,6.35 74.57,12.002 ; 77.11,6.35 77.11,12.002 ; 79.65,6.35 79.65,12.002
Mechanical 24:
  lines w0.4: -49.89,-2.54 -49.89,6.35 ; -47.35,-2.54 -47.35,6.35 ; -44.81,-2.54 -44.81,6.35 ; -42.27,-2.54 -42.27,6.35 ; -39.73,-2.54 -39.73,6.35 ; -37.19,-2.54 -37.19,6.35 ; -34.65,-2.54 -34.65,6.35 ; -32.11,-2.54 -32.11,6.35 ; -29.57,-2.54 -29.57,6.35 ; -27.03,-2.54 -27.03,6.35 ; -24.49,-2.54 -24.49,6.35 ; -21.95,-2.54 -21.95,6.35 ; -19.41,-2.54 -19.41,6.35 ; -16.87,-2.54 -16.87,6.35 ; -14.33,-2.54 -14.33,6.35 ; -11.79,-2.54 -11.79,6.35 ; -9.25,-2.54 -9.25,6.35 ; -6.71,-2.54 -6.71,6.35 ; 3.45,-2.54 3.45,6.35 ; 5.99,-2.54 5.99,6.35 ; 8.53,-2.54 8.53,6.35 ; 11.07,-2.54 11.07,6.35 ; 13.61,-2.54 13.61,6.35 ; 16.15,-2.54 16.15,6.35 ; 18.69,-2.54 18.69,6.35 ; 21.23,-2.54 21.23,6.35 ; 23.77,-2.54 23.77,6.35 ; 26.31,-2.54 26.31,6.35 ; 28.85,-2.54 28.85,6.35 ; 31.39,-2.54 31.39,6.35 ; 33.93,-2.54 33.93,6.35 ; 36.47,-2.54 36.47,6.35 ; 39.01,-2.54 39.01,6.35 ; 41.55,-2.54 41.55,6.35 ; 44.09,-2.54 44.09,6.35 ; 46.63,-2.54 46.63,6.35 ; 49.17,-2.54 49.17,6.35 ; 51.71,-2.54 51.71,6.35 ; 54.25,-2.54 54.25,6.35 ; 56.79,-2.54 56.79,6.35 ; 59.33,-2.54 59.33,6.35 ; 61.87,-2.54 61.87,6.35 ; 64.41,-2.54 64.41,6.35 ; 66.95,-2.54 66.95,6.35 ; 69.49,-2.54 69.49,6.35 ; 72.03,-2.54 72.03,6.35 ; 74.57,-2.54 74.57,6.35 ; 77.11,-2.54 77.11,6.35 ; 79.65,-2.54 79.65,6.35
  lines w1.016: -51.435,-2.54 81.28,-2.54
  lines w1.4: -48.62,-1.905 -48.62,4.699 ; -46.08,-1.905 -46.08,4.699 ; -43.54,-1.905 -43.54,4.699 ; -41,-1.905 -41,4.699 ; -35.92,-1.905 -35.92,4.699 ; -33.38,-1.905 -33.38,4.699 ; -30.84,-1.905 -30.84,4.699 ; -28.3,-1.905 -28.3,4.699 ; -25.76,-1.905 -25.76,4.699 ; -23.22,-1.905 -23.22,4.699 ; -20.68,-1.905 -20.68,4.699 ; -18.14,-1.905 -18.14,4.699 ; -13.06,-1.905 -13.06,4.699 ; -10.52,-1.905 -10.52,4.699 ; -7.98,-1.905 -7.98,4.699 ; -5.44,-1.905 -5.44,4.699 ; -2.9,-1.905 -2.9,4.699 ; 2.18,-1.905 2.18,4.699 ; 4.72,-1.905 4.72,4.699 ; 7.26,-1.905 7.26,4.699 ; 9.8,-1.905 9.8,4.699 ; 12.34,-1.905 12.34,4.699 ; 14.88,-1.905 14.88,4.699 ; 19.96,-1.905 19.96,4.699 ; 22.5,-1.905 22.5,4.699 ; 25.04,-1.905 25.04,4.699 ; 27.58,-1.905 27.58,4.699 ; 30.12,-1.905 30.12,4.699 ; 32.66,-1.905 32.66,4.699 ; 35.2,-1.905 35.2,4.699 ; 37.74,-1.905 37.74,4.699 ; 42.82,-1.905 42.82,4.699 ; 45.36,-1.905 45.36,4.699 ; 47.9,-1.905 47.9,4.699 ; 50.44,-1.905 50.44,4.699 ; 52.98,-1.905 52.98,4.699 ; 55.52,-1.905 55.52,4.699 ; 58.06,-1.905 58.06,4.699 ; 60.6,-1.905 60.6,4.699 ; 63.14,-1.905 63.14,4.699 ; 68.22,-1.905 68.22,4.699 ; 70.76,-1.905 70.76,4.699 ; 73.3,-1.905 73.3,4.699 ; 75.84,-1.905 75.84,4.699 ; 78.38,-1.905 78.38,4.699
  lines w1.5: -49.89,6.35 -49.89,12.002 ; -47.35,6.35 -47.35,12.002 ; -44.81,6.35 -44.81,12.002 ; -42.27,6.35 -42.27,12.002 ; -39.73,6.35 -39.73,12.002 ; -37.19,6.35 -37.19,12.002 ; -34.65,6.35 -34.65,12.002 ; -32.11,6.35 -32.11,12.002 ; -29.57,6.35 -29.57,12.002 ; -27.03,6.35 -27.03,12.002 ; -24.49,6.35 -24.49,12.002 ; -21.95,6.35 -21.95,12.002 ; -19.41,6.35 -19.41,12.002 ; -16.87,6.35 -16.87,12.002 ; -14.33,6.35 -14.33,12.002 ; -11.79,6.35 -11.79,12.002 ; -9.25,6.35 -9.25,12.002 ; -6.71,6.35 -6.71,12.002 ; 3.45,6.35 3.45,12.002 ; 5.99,6.35 5.99,12.002 ; 8.53,6.35 8.53,12.002 ; 11.07,6.35 11.07,12.002 ; 13.61,6.35 13.61,12.002 ; 16.15,6.35 16.15,12.002 ; 18.69,6.35 18.69,12.002 ; 21.23,6.35 21.23,12.002 ; 23.77,6.35 23.77,12.002 ; 26.31,6.35 26.31,12.002 ; 28.85,6.35 28.85,12.002 ; 31.39,6.35 31.39,12.002 ; 33.93,6.35 33.93,12.002 ; 36.47,6.35 36.47,12.002 ; 39.01,6.35 39.01,12.002 ; 41.55,6.35 41.55,12.002 ; 44.09,6.35 44.09,12.002 ; 46.63,6.35 46.63,12.002 ; 49.17,6.35 49.17,12.002 ; 51.71,6.35 51.71,12.002 ; 54.25,6.35 54.25,12.002 ; 56.79,6.35 56.79,12.002 ; 59.33,6.35 59.33,12.002 ; 61.87,6.35 61.87,12.002 ; 64.41,6.35 64.41,12.002 ; 66.95,6.35 66.95,12.002 ; 69.49,6.35 69.49,12.002 ; 72.03,6.35 72.03,12.002 ; 74.57,6.35 74.57,12.002 ; 77.11,6.35 77.11,12.002 ; 79.65,6.35 79.65,12.002

## IBM8BIT [mil]
pads (62):
  rect 60x255 smd: A1(-1000,200) A2(-1100,200) A3(-1200,200) A4(-1300,200) A5(-1400,200) A6(-1500,200) A7(-1600,200) A8(-1700,200) A9(-1800,200) A10(-1900,200) A11(-2000,200) A12(-2100,200) A13(-2200,200) A14(-2300,200) A15(-2400,200) A16(-2500,200) A17(-2600,200) A18(-2700,200) A19(-2800,200) A20(-2900,200) A21(-3000,200) A22(-3100,200) A23(-3200,200) A24(-3300,200) A25(-3400,200) A26(-3500,200) A27(-3600,200) A28(-3700,200) A29(-3800,200) A30(-3900,200) A31(-4000,200)
  rect 60x255 smd far side: B1(-1000,200) B2(-1100,200) B3(-1200,200) B4(-1300,200) B5(-1400,200) B6(-1500,200) B7(-1600,200) B8(-1700,200) B9(-1800,200) B10(-1900,200) B11(-2000,200) B12(-2100,200) B13(-2200,200) B14(-2300,200) B15(-2400,200) B16(-2500,200) B17(-2600,200) B18(-2700,200) B19(-2800,200) B20(-2900,200) B21(-3000,200) B22(-3100,200) B23(-3200,200) B24(-3300,200) B25(-3400,200) B26(-3500,200) B27(-3600,200) B28(-3700,200) B29(-3800,200) B30(-3900,200) B31(-4000,200)
Top Overlay:
  lines w6: -4095,250 -4095,330
  lines w8: -4750,3925 -4.69,3925 ; -4655,330 -4095,330 -4095,45 -4070,20 -930,20 -905,45 -905,330 -6.06,330 ; -5,331.22 -5,3923.66
Mechanical 13:
  lines w0: -4606,20 -4571,20 ; -4571,102 -4571,20 ; -4571,243 -4571,330 ; -4374,20 -4571,20 ; -4095,-305 -4095,-20 ; -905,-295 -905,16 ; -4571,20 -4544,84 -4598,84 -4571,20 ; -4571,330 -4599,271 -4543,271 -4571,330 ; -4094,-250 -906,-250 ; -4094,-250 -4000,-200 -4000,-300 -4094,-250 ; -906,-250 -1000,-200 -1000,-300 -906,-250
  lines w40: 100,-746 100,4012 550,4012
  text "7,87 mm" at -4846,142 h108.5
  text "81.1 mm" at -2733,-341 h108.5
Mechanical 23:
  rectangle: -4030,70 -3970,330
  rectangle: -3930,70 -3870,330
  rectangle: -3830,70 -3770,330
  rectangle: -3730,70 -3670,330
  rectangle: -3630,70 -3570,330
  rectangle: -3530,70 -3470,330
  rectangle: -3430,70 -3370,330
  rectangle: -3330,70 -3270,330
  rectangle: -3230,70 -3170,330
  rectangle: -3130,70 -3070,330
  rectangle: -3030,70 -2970,330
  rectangle: -2930,70 -2870,330
  rectangle: -2830,70 -2770,330
  rectangle: -2730,70 -2670,330
  rectangle: -2630,70 -2570,330
  rectangle: -2530,70 -2470,330
  rectangle: -2430,70 -2370,330
  rectangle: -2330,70 -2270,330
  rectangle: -2230,70 -2170,330
  rectangle: -2130,70 -2070,330
  rectangle: -2030,70 -1970,330
  rectangle: -1930,70 -1870,330
  rectangle: -1830,70 -1770,330
  rectangle: -1730,70 -1670,330
  rectangle: -1630,70 -1570,330
  rectangle: -1530,70 -1470,330
  rectangle: -1430,70 -1370,330
  rectangle: -1330,70 -1270,330
  rectangle: -1230,70 -1170,330
  rectangle: -1130,70 -1070,330
  rectangle: -1030,70 -970,330
  lines w40: -4150,-150 -650,-150 ; -4000,-150 -4000,100 ; -3900,-150 -3900,100 ; -3800,-150 -3800,100 ; -3700,-150 -3700,100 ; -3600,-150 -3600,100 ; -3500,-150 -3500,100 ; -3400,-150 -3400,100 ; -3300,-150 -3300,100 ; -3200,-150 -3200,100 ; -3100,-150 -3100,100 ; -3000,-150 -3000,100 ; -2900,-150 -2900,100 ; -2800,-150 -2800,100 ; -2700,-150 -2700,100 ; -2600,-150 -2600,100 ; -2500,-150 -2500,100 ; -2400,-150 -2400,100 ; -2300,-150 -2300,100 ; -2200,-150 -2200,100 ; -2100,-150 -2100,100 ; -2000,-150 -2000,100 ; -1900,-150 -1900,100 ; -1800,-150 -1800,100 ; -1700,-150 -1700,100 ; -1600,-150 -1600,100 ; -1500,-150 -1500,100 ; -1400,-150 -1400,100 ; -1300,-150 -1300,100 ; -1200,-150 -1200,100 ; -1100,-150 -1100,100 ; -1000,-150 -1000,100
Mechanical 24:
  rectangle: -4030,70 -3970,330
  rectangle: -3930,70 -3870,330
  rectangle: -3830,70 -3770,330
  rectangle: -3730,70 -3670,330
  rectangle: -3630,70 -3570,330
  rectangle: -3530,70 -3470,330
  rectangle: -3430,70 -3370,330
  rectangle: -3330,70 -3270,330
  rectangle: -3230,70 -3170,330
  rectangle: -3130,70 -3070,330
  rectangle: -3030,70 -2970,330
  rectangle: -2930,70 -2870,330
  rectangle: -2830,70 -2770,330
  rectangle: -2730,70 -2670,330
  rectangle: -2630,70 -2570,330
  rectangle: -2530,70 -2470,330
  rectangle: -2430,70 -2370,330
  rectangle: -2330,70 -2270,330
  rectangle: -2230,70 -2170,330
  rectangle: -2130,70 -2070,330
  rectangle: -2030,70 -1970,330
  rectangle: -1930,70 -1870,330
  rectangle: -1830,70 -1770,330
  rectangle: -1730,70 -1670,330
  rectangle: -1630,70 -1570,330
  rectangle: -1530,70 -1470,330
  rectangle: -1430,70 -1370,330
  rectangle: -1330,70 -1270,330
  rectangle: -1230,70 -1170,330
  rectangle: -1130,70 -1070,330
  rectangle: -1030,70 -970,330
  lines w40: -4150,-150 -650,-150 ; -4000,-150 -4000,100 ; -3900,-150 -3900,100 ; -3800,-150 -3800,100 ; -3700,-150 -3700,100 ; -3600,-150 -3600,100 ; -3500,-150 -3500,100 ; -3400,-150 -3400,100 ; -3300,-150 -3300,100 ; -3200,-150 -3200,100 ; -3100,-150 -3100,100 ; -3000,-150 -3000,100 ; -2900,-150 -2900,100 ; -2800,-150 -2800,100 ; -2700,-150 -2700,100 ; -2600,-150 -2600,100 ; -2500,-150 -2500,100 ; -2400,-150 -2400,100 ; -2300,-150 -2300,100 ; -2200,-150 -2200,100 ; -2100,-150 -2100,100 ; -2000,-150 -2000,100 ; -1900,-150 -1900,100 ; -1800,-150 -1800,100 ; -1700,-150 -1700,100 ; -1600,-150 -1600,100 ; -1500,-150 -1500,100 ; -1400,-150 -1400,100 ; -1300,-150 -1300,100 ; -1200,-150 -1200,100 ; -1100,-150 -1100,100 ; -1000,-150 -1000,100